# EAGLE library part 9374-50 (library impellimax-drivers)
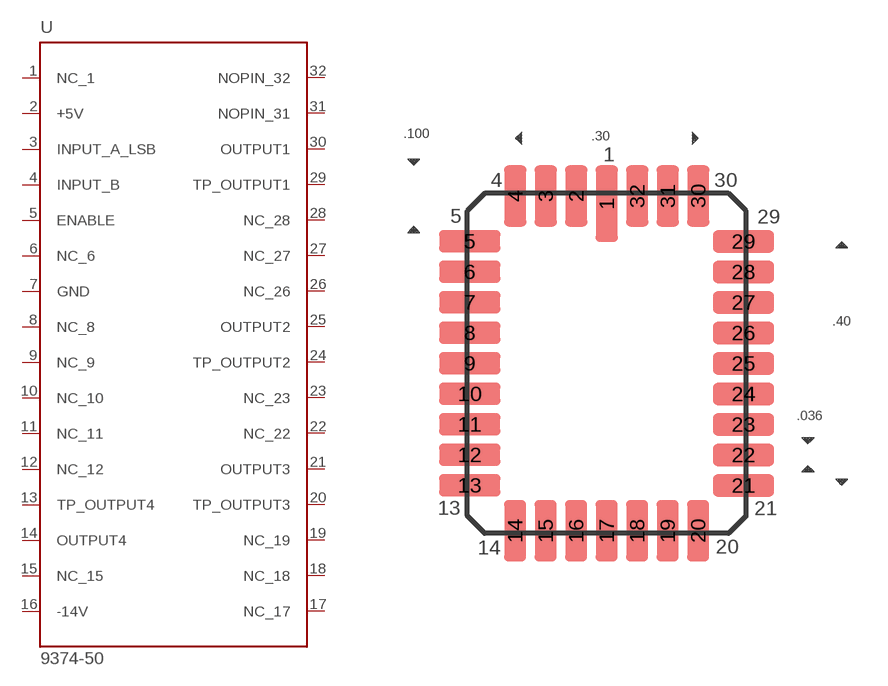
[diagram p39: symbol with the pads of 7416_C145; footprint 7416_C145]

Designator prefix U

## 9374-50  [7416_C145]
1  NC_1  in
2  +5V  in
3  INPUT_A_LSB  pas
4  INPUT_B  in
5  ENABLE  in
6  NC_6  in
7  GND  pas
8  NC_8  pas
9  NC_9  pas
10  NC_10  pas
11  NC_11  pas
12  NC_12  pas
13  TP_OUTPUT4  pas
14  OUTPUT4  pas
15  NC_15  pas
16  -14V  pas
17  NC_17  pas
18  NC_18  pas
19  NC_19  pas
20  TP_OUTPUT3  pas
21  OUTPUT3  pas
22  NC_22  pas
23  NC_23  pas
24  TP_OUTPUT2  pas
25  OUTPUT2  pas
26  NC_26  in
27  NC_27  in
28  NC_28  in
29  TP_OUTPUT1  in
30  OUTPUT1  in
31  NOPIN_31  in
32  NOPIN_32  in

## Footprint 7416_C145 (pad centres in mm)
smd 0.914 x 3.175: 1 0.002,6.653
smd 0.914 x 2.54: 2 -1.268,6.97; 3 -2.538,6.97; 4 -3.808,6.97; 14 -3.812,-6.97; 15 -2.542,-6.97; 16 -1.272,-6.97; 17 -0.002,-6.97; 18 1.268,-6.97; 19 2.538,-6.97; 20 3.808,-6.97; 30 3.812,6.97; 31 2.542,6.97; 32 1.272,6.97
smd 2.54 x 0.914: 5 -5.7,5.082; 6 -5.7,3.812; 7 -5.7,2.542; 8 -5.7,1.272; 9 -5.7,0.002; 10 -5.7,-1.268; 11 -5.7,-2.538; 12 -5.7,-3.808; 13 -5.7,-5.078; 21 5.7,-5.082; 22 5.7,-3.812; 23 5.7,-2.542; 24 5.7,-1.272; 25 5.7,-0.002; 26 5.7,1.268; 27 5.7,2.538; 28 5.7,3.808; 29 5.7,5.078